# Altium footprint library PcbLib1.PcbLib: 1 footprints
Each footprint in its own frame and in the unit in brackets; x right, y up, seen from the top. Pads: shape width x height; smd on the part's side, far side on the other; paste and mask are expansions set on the pad; w line width, h text height; cw(c..) or ccw(c..) is an arc to the next point about the centre after c.
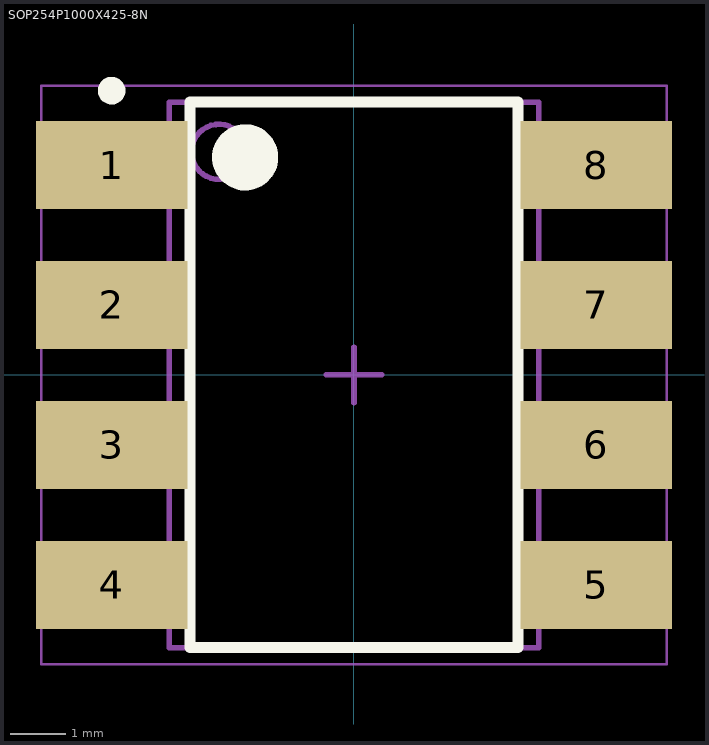
[diagram p0: the footprint, top view; thin cyan lines are the x and y axes]

## SOP254P1000X425-8N [mm] "SOP, 8-Leads, Body 9.66x6.40mm, Pitch 2.54mm, IPC Medium Density"
height 4.25
pads (8):
  rect 2.75x1.6 smd: 1(-4.4,3.81) 2(-4.4,1.27) 3(-4.4,-1.27) 4(-4.4,-3.81) 5(4.4,-3.81) 6(4.4,-1.27) 7(4.4,1.27) 8(4.4,3.81)
Top Overlay:
  circle w0.25: c-4.4,5.16 r0.125
  circle w0.6: c-1.975,3.95 r0.3
  lines w0.2: -2.975,-4.95 -2.975,4.95 2.975,4.95 2.975,-4.95 -2.975,-4.95
Mechanical 13:
  circle w0.1: c-2.45,4.05 r0.5
  lines w0.1: -3.35,-4.95 -3.35,4.95 3.35,4.95 3.35,-4.95 -3.35,-4.95
Mechanical 15:
  lines w0.05: -5.675,-5.25 -5.675,5.25 5.675,5.25 5.675,-5.25 -5.675,-5.25
  lines w0.1: -0.5,0 0.5,0 ; 0,-0.5 0,0.5
3D body "SOP254P1000X425-8N.step": height 4.25, standoff 0, extent -5,-4.95 5,4.95